# EAGLE library part PAD2X3 (library alchemy)
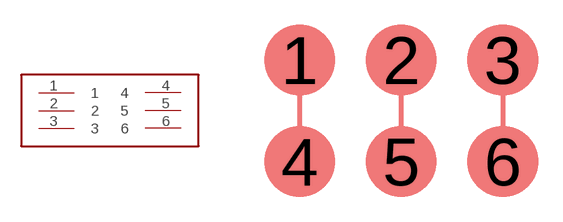
[diagram p0: symbol with the pads of PAD2X3; footprint PAD2X3]

Designator prefix -

## PAD2X3  [PAD2X3]
1  1
2  2
3  3
4  4
5  5
6  6

## Footprint PAD2X3 (pad centres in mm)
smd 1.778 x 1.778: 1 -2.54,2.54; 2 0,2.54; 3 2.54,2.54; 4 -2.54,0; 5 0,0; 6 2.54,0